# Altium integrated library Analog Devices Data Converters Analog-to-Digital Converters.IntLib: 2400 symbols (part 26 of 338)
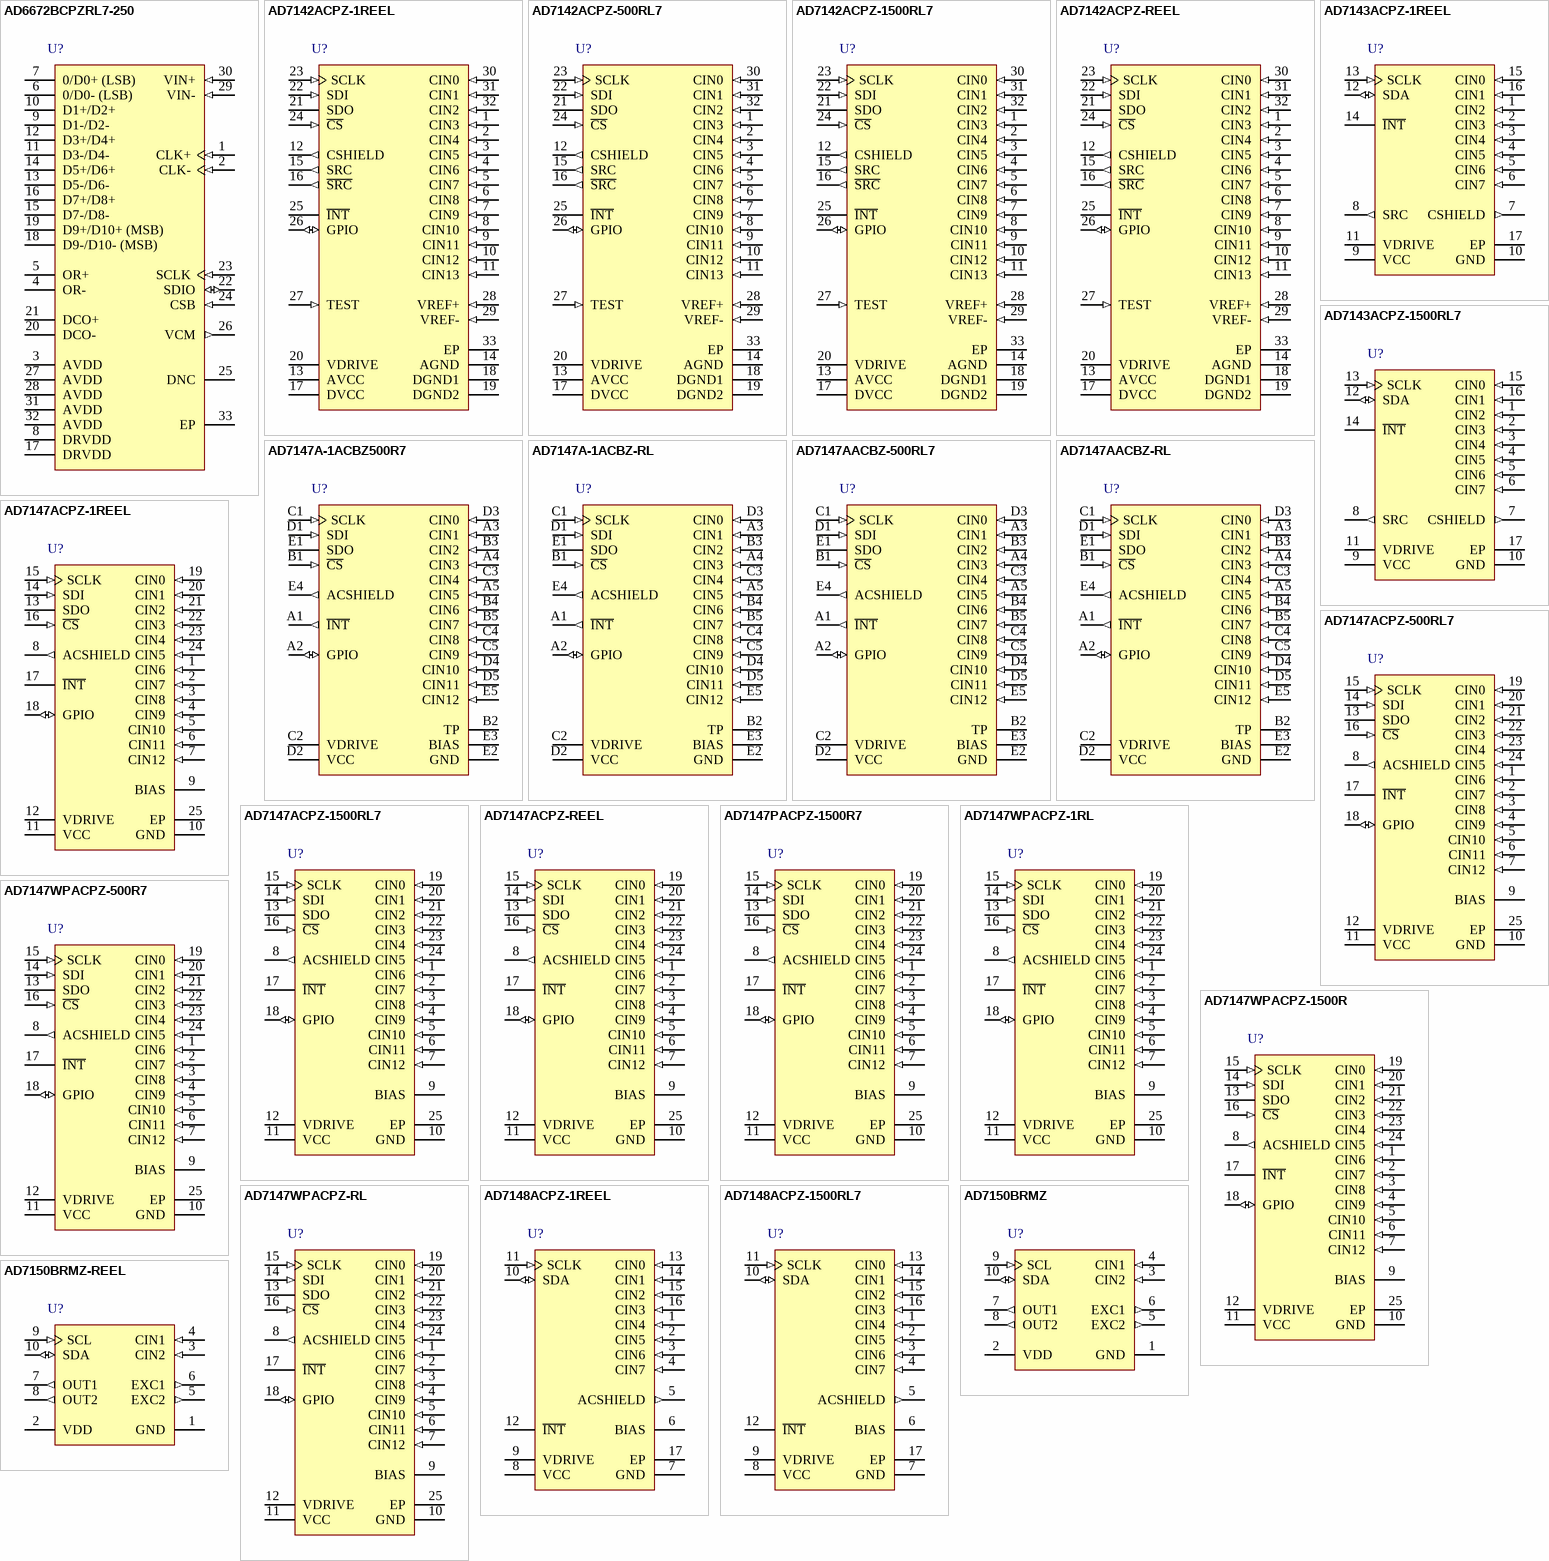
[diagram p269: symbols AD6672BCPZRL7-250 to AD7150BRMZ-REEL]

## AD7142ACPZ-500RL7
designator U?
Programmable Controller for Capacitance Touch Sensors with I2C/Serial 2-Wire, Serial, SPI Interface, 27.8kSPS, -40 to +85 degC, CP-32-2, Pb-Free, Reel; Part Number: AD7142; Manufacturer: Analog Devices; Resolution (Bits): 16; Channels: 14; Throughput Rate (SPS): 27.8; Interface: I2C/Ser 2-Wire, Ser, SPI; DatasheetVersion: Rev.A; PackageVersion: Jan-2005; PackageReference: CP-32-2; PackageDescription: 32-Lead Lead Frame Chip Scale Package [LFCSP_VQ] 5 x 5 mm Body, Very Thin Quad; RoHS: Y; Packing: Reel; Mounting Technology: Surface Mount; Code_JEDEC: MO-220-VHHD-2; ComponentLink1Description: Manufacturer URL; ComponentLink1URL: http://www.analog.com/en/index.html; ComponentLink2Description: Datasheet; ComponentLink2URL: http://www.analog.com/static/imported-files/data_sheets/AD7142.pdf; ComponentLink3Description: Package Specification; ComponentLink3URL: http://www.analog.com/static/imported-files/packages/414143737956480539664569CP_32_2.pdf; ComponentLink4Description: Product URL; ComponentLink4URL: http://www.analog.com/en/analog-to-digital-converters/ad-converters/ad7142/products/product.html
footprint CP-32-2_N (QFN, 32-Leads, Body 5x5mm, Pitch 0.5mm, Thermal Pad 3.1x3.1mm, IPC Medium Density)
footprint CP-32-2_L (QFN, 32-Leads, Body 5x5mm, Pitch 0.5mm, Thermal Pad 3.1x3.1mm, IPC High Density)
footprint CP-32-2_M (QFN, 32-Leads, Body 5x5mm, Pitch 0.5mm, Thermal Pad 3.1x3.1mm, IPC Low Density)
pins: 1 CIN3 (in) "Capacitance Sensor Input.", 2 CIN4 (in) "Capacitance Sensor Input.", 3 CIN5 (in) "Capacitance Sensor Input.", 4 CIN6 (in) "Capacitance Sensor Input.", 5 CIN7 (in) "Capacitance Sensor Input.", 6 CIN8 (in) "Capacitance Sensor Input.", 7 CIN9 (in) "Capacitance Sensor Input.", 8 CIN10 (in) "Capacitance Sensor Input.", 9 CIN11 (in) "Capacitance Sensor Input.", 10 CIN12 (in) "Capacitance Sensor Input.", 11 CIN13 (in) "Capacitance Sensor Input.", 12 CSHIELD (out) "CDC Shield Potential Output. Requires 10 nF capacitor to ground. Connect to external shield.", 13 AVCC (power) "CDC Supply Voltage.", 14 AGND (power) "Analog Ground Reference Point for All CDC Circuitry. Tie to analog ground plane.", 15 SRC (out) "CDC Excitation Source Output.", 16 ~{SRC} (out) "Inverted Excitation Source Output.", 17 DVCC (power) "Digital Core Supply Voltage.", 18 DGND1 (power) "Digital Ground.", 19 DGND2 (power) "Digital Ground.", 20 VDRIVE (power) "Serial Interface Operating Voltage Supply.", 21 SDO (hiz) "SPI Serial Data Output.", 22 SDI (in) "SPI Serial Data Input.", 23 SCLK (in) "Clock Input for Serial Interface.", 24 ~{CS} (in) "SPI Chip Select Signal.", 25 ~{INT} (oc) "General-Purpose Open-Drain Interrupt Output. Programmable polarity; requires pull-up resistor.", 26 GPIO (io) "Programmable GPIO.", 27 TEST (in) "Factory Test Pin. Tie to ground.", 28 VREF+ (in) "CDC Positive Reference Input. Normally tied to analog power.", 29 VREF- (in) "CDC Negative Reference Input. Tie to analog ground.", 30 CIN0 (in) "Capacitance Sensor Input.", 31 CIN1 (in) "Capacitance Sensor Input.", 32 CIN2 (in) "Capacitance Sensor Input.", 33 EP (power) "Exposed Paddle."

## AD7142ACPZ-1500RL7
designator U?
Programmable Controller for Capacitance Touch Sensors with I2C/Serial 2-Wire, Serial, SPI Interface, 27.8kSPS, -40 to +85 degC, CP-32-2, Pb-Free, Reel; Part Number: AD7142; Manufacturer: Analog Devices; Resolution (Bits): 16; Channels: 14; Throughput Rate (SPS): 27.8; Interface: I2C/Ser 2-Wire, Ser, SPI; DatasheetVersion: Rev.A; PackageVersion: Jan-2005; PackageReference: CP-32-2; PackageDescription: 32-Lead Lead Frame Chip Scale Package [LFCSP_VQ] 5 x 5 mm Body, Very Thin Quad; RoHS: Y; Packing: Reel; Mounting Technology: Surface Mount; Code_JEDEC: MO-220-VHHD-2; ComponentLink1Description: Manufacturer URL; ComponentLink1URL: http://www.analog.com/en/index.html; ComponentLink2Description: Datasheet; ComponentLink2URL: http://www.analog.com/static/imported-files/data_sheets/AD7142.pdf; ComponentLink3Description: Package Specification; ComponentLink3URL: http://www.analog.com/static/imported-files/packages/414143737956480539664569CP_32_2.pdf; ComponentLink4Description: Product URL; ComponentLink4URL: http://www.analog.com/en/analog-to-digital-converters/ad-converters/ad7142/products/product.html
footprint CP-32-2_N (QFN, 32-Leads, Body 5x5mm, Pitch 0.5mm, Thermal Pad 3.1x3.1mm, IPC Medium Density)
footprint CP-32-2_L (QFN, 32-Leads, Body 5x5mm, Pitch 0.5mm, Thermal Pad 3.1x3.1mm, IPC High Density)
footprint CP-32-2_M (QFN, 32-Leads, Body 5x5mm, Pitch 0.5mm, Thermal Pad 3.1x3.1mm, IPC Low Density)
pins: 1 CIN3 (in) "Capacitance Sensor Input.", 2 CIN4 (in) "Capacitance Sensor Input.", 3 CIN5 (in) "Capacitance Sensor Input.", 4 CIN6 (in) "Capacitance Sensor Input.", 5 CIN7 (in) "Capacitance Sensor Input.", 6 CIN8 (in) "Capacitance Sensor Input.", 7 CIN9 (in) "Capacitance Sensor Input.", 8 CIN10 (in) "Capacitance Sensor Input.", 9 CIN11 (in) "Capacitance Sensor Input.", 10 CIN12 (in) "Capacitance Sensor Input.", 11 CIN13 (in) "Capacitance Sensor Input.", 12 CSHIELD (out) "CDC Shield Potential Output. Requires 10 nF capacitor to ground. Connect to external shield.", 13 AVCC (power) "CDC Supply Voltage.", 14 AGND (power) "Analog Ground Reference Point for All CDC Circuitry. Tie to analog ground plane.", 15 SRC (out) "CDC Excitation Source Output.", 16 ~{SRC} (out) "Inverted Excitation Source Output.", 17 DVCC (power) "Digital Core Supply Voltage.", 18 DGND1 (power) "Digital Ground.", 19 DGND2 (power) "Digital Ground.", 20 VDRIVE (power) "Serial Interface Operating Voltage Supply.", 21 SDO (hiz) "SPI Serial Data Output.", 22 SDI (in) "SPI Serial Data Input.", 23 SCLK (in) "Clock Input for Serial Interface.", 24 ~{CS} (in) "SPI Chip Select Signal.", 25 ~{INT} (oc) "General-Purpose Open-Drain Interrupt Output. Programmable polarity; requires pull-up resistor.", 26 GPIO (io) "Programmable GPIO.", 27 TEST (in) "Factory Test Pin. Tie to ground.", 28 VREF+ (in) "CDC Positive Reference Input. Normally tied to analog power.", 29 VREF- (in) "CDC Negative Reference Input. Tie to analog ground.", 30 CIN0 (in) "Capacitance Sensor Input.", 31 CIN1 (in) "Capacitance Sensor Input.", 32 CIN2 (in) "Capacitance Sensor Input.", 33 EP (power) "Exposed Paddle."

## AD7142ACPZ-REEL
designator U?
Programmable Controller for Capacitance Touch Sensors with I2C/Serial 2-Wire, Serial, SPI Interface, 27.8kSPS, -40 to +85 degC, CP-32-2, Pb-Free, Reel; Part Number: AD7142; Manufacturer: Analog Devices; Resolution (Bits): 16; Channels: 14; Throughput Rate (SPS): 27.8; Interface: I2C/Ser 2-Wire, Ser, SPI; DatasheetVersion: Rev.A; PackageVersion: Jan-2005; PackageReference: CP-32-2; PackageDescription: 32-Lead Lead Frame Chip Scale Package [LFCSP_VQ] 5 x 5 mm Body, Very Thin Quad; RoHS: Y; Packing: Reel; Mounting Technology: Surface Mount; Code_JEDEC: MO-220-VHHD-2; ComponentLink1Description: Manufacturer URL; ComponentLink1URL: http://www.analog.com/en/index.html; ComponentLink2Description: Datasheet; ComponentLink2URL: http://www.analog.com/static/imported-files/data_sheets/AD7142.pdf; ComponentLink3Description: Package Specification; ComponentLink3URL: http://www.analog.com/static/imported-files/packages/414143737956480539664569CP_32_2.pdf; ComponentLink4Description: Product URL; ComponentLink4URL: http://www.analog.com/en/analog-to-digital-converters/ad-converters/ad7142/products/product.html
footprint CP-32-2_N (QFN, 32-Leads, Body 5x5mm, Pitch 0.5mm, Thermal Pad 3.1x3.1mm, IPC Medium Density)
footprint CP-32-2_L (QFN, 32-Leads, Body 5x5mm, Pitch 0.5mm, Thermal Pad 3.1x3.1mm, IPC High Density)
footprint CP-32-2_M (QFN, 32-Leads, Body 5x5mm, Pitch 0.5mm, Thermal Pad 3.1x3.1mm, IPC Low Density)
pins: 1 CIN3 (in) "Capacitance Sensor Input.", 2 CIN4 (in) "Capacitance Sensor Input.", 3 CIN5 (in) "Capacitance Sensor Input.", 4 CIN6 (in) "Capacitance Sensor Input.", 5 CIN7 (in) "Capacitance Sensor Input.", 6 CIN8 (in) "Capacitance Sensor Input.", 7 CIN9 (in) "Capacitance Sensor Input.", 8 CIN10 (in) "Capacitance Sensor Input.", 9 CIN11 (in) "Capacitance Sensor Input.", 10 CIN12 (in) "Capacitance Sensor Input.", 11 CIN13 (in) "Capacitance Sensor Input.", 12 CSHIELD (out) "CDC Shield Potential Output. Requires 10 nF capacitor to ground. Connect to external shield.", 13 AVCC (power) "CDC Supply Voltage.", 14 AGND (power) "Analog Ground Reference Point for All CDC Circuitry. Tie to analog ground plane.", 15 SRC (out) "CDC Excitation Source Output.", 16 ~{SRC} (out) "Inverted Excitation Source Output.", 17 DVCC (power) "Digital Core Supply Voltage.", 18 DGND1 (power) "Digital Ground.", 19 DGND2 (power) "Digital Ground.", 20 VDRIVE (power) "Serial Interface Operating Voltage Supply.", 21 SDO (hiz) "SPI Serial Data Output.", 22 SDI (in) "SPI Serial Data Input.", 23 SCLK (in) "Clock Input for Serial Interface.", 24 ~{CS} (in) "SPI Chip Select Signal.", 25 ~{INT} (oc) "General-Purpose Open-Drain Interrupt Output. Programmable polarity; requires pull-up resistor.", 26 GPIO (io) "Programmable GPIO.", 27 TEST (in) "Factory Test Pin. Tie to ground.", 28 VREF+ (in) "CDC Positive Reference Input. Normally tied to analog power.", 29 VREF- (in) "CDC Negative Reference Input. Tie to analog ground.", 30 CIN0 (in) "Capacitance Sensor Input.", 31 CIN1 (in) "Capacitance Sensor Input.", 32 CIN2 (in) "Capacitance Sensor Input.", 33 EP (power) "Exposed Paddle."